# EAGLE library part 691402910008 (library Wurth_Terminal_Blocks_Connectors_rev15d)
WR-TBL Terminal block - serie 4029 2,54mm - Spring clamp/Screwless - Horizontal wire entry - 08p Code:Con_TBL_Screwless_2.54_6914029100xxB_691402910008 <http://katalog.we-online.de/media/images/eican/Con_TBL_Screwless_2.54_6914029100xxB_pf2.jpg> Details see: http://katalog.we-online.de/en/em/691_402_910_0xxB/691_402_910_008B?m Created 2014-12-22, aslant tao 2014 (C) Würth Elektronik
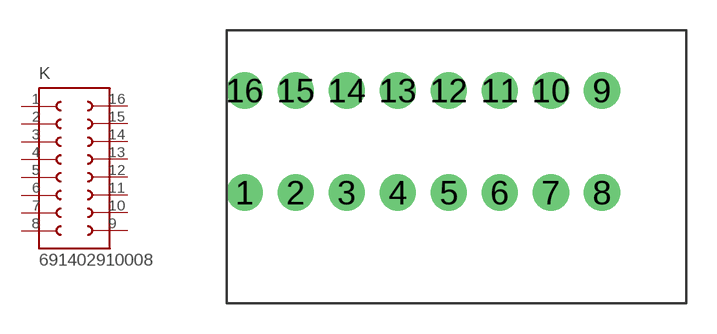
[diagram p207: symbol with the pads of 691402910008; footprint 691402910008]

Designator prefix K

## 691402910008  [691402910008]
1  1  pas
2  2  pas
3  3  pas
4  4  pas
5  5  pas
6  6  pas
7  7  pas
8  8  pas
9  9  pas
10  10  pas
11  11  pas
12  12  pas
13  13  pas
14  14  pas
15  15  pas
16  16  pas

## Footprint 691402910008 (pad centres in mm)
WR-TBL Serie 4029 - 2.54mm Screwless Horizontal Entry - 0.5mm2 Wires, 8 Pins
drill 1.2: 1 -10.16,0; 2 -7.62,0; 3 -5.08,0; 4 -2.54,0; 5 0,0; 6 2.54,0; 7 5.08,0; 8 7.62,0; 9 7.62,5.08; 10 5.08,5.08; 11 2.54,5.08; 12 0,5.08; 13 -2.54,5.08; 14 -5.08,5.08; 15 -7.62,5.08; 16 -10.16,5.08